# EAGLE library part TL074IDT (library ic)
Low noise JFET quad operational amplifier
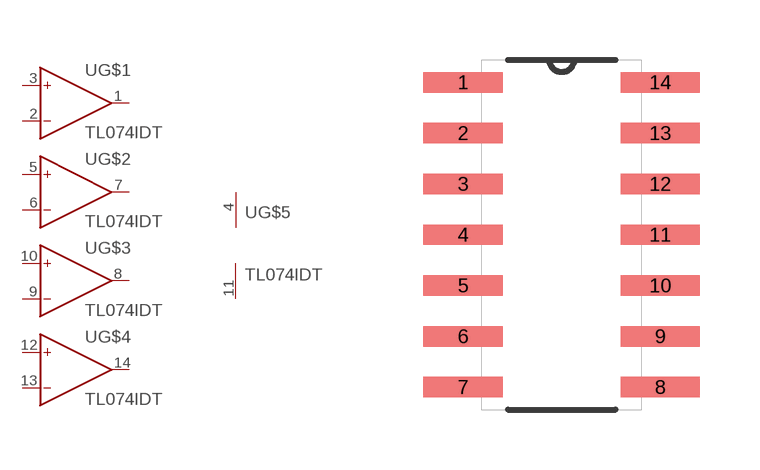
[diagram p0: symbol with the pads of SOIC127P600X175-14N; footprint SOIC127P600X175-14N]

Designator prefix U; gates G$1=OP G$2=OP G$3=OP G$4=OP G$5=PWR+-

## TL074IDT (LINK: https://www.mouser.se/ProductDetail/STMicroelectronics/TL074IDT?qs=xiMLMHqF5JUaM%252BCWVyDQFA%3D%3D; MFR: STMicroelectronics; MFR-NR: TL074IDT; SUPPLIER: Mouser)  [SOIC127P600X175-14N]
1  G$1:OUT  out
2  G$1:IN-  in
3  G$1:IN+  in
4  G$5:V+  pwr
5  G$2:IN+  in
6  G$2:IN-  in
7  G$2:OUT  out
8  G$3:OUT  out
9  G$3:IN-  in
10  G$3:IN+  in
11  G$5:V-  pwr
12  G$4:IN+  in
13  G$4:IN-  in
14  G$4:OUT  out

## Footprint SOIC127P600X175-14N (pad centres in mm)
smd 1.981 x 0.508: 1 -2.464,3.81; 2 -2.464,2.54; 3 -2.464,1.27; 4 -2.464,0; 5 -2.464,-1.27; 6 -2.464,-2.54; 7 -2.464,-3.81; 8 2.464,-3.81; 9 2.464,-2.54; 10 2.464,-1.27; 11 2.464,0; 12 2.464,1.27; 13 2.464,2.54; 14 2.464,3.81